# Altium footprint library 2917.PcbLib: 1 footprints
Each footprint in its own frame and in the unit in brackets; x right, y up, seen from the top. Pads: shape width x height; smd on the part's side, far side on the other; paste and mask are expansions set on the pad; w line width, h text height; cw(c..) or ccw(c..) is an arc to the next point about the centre after c.
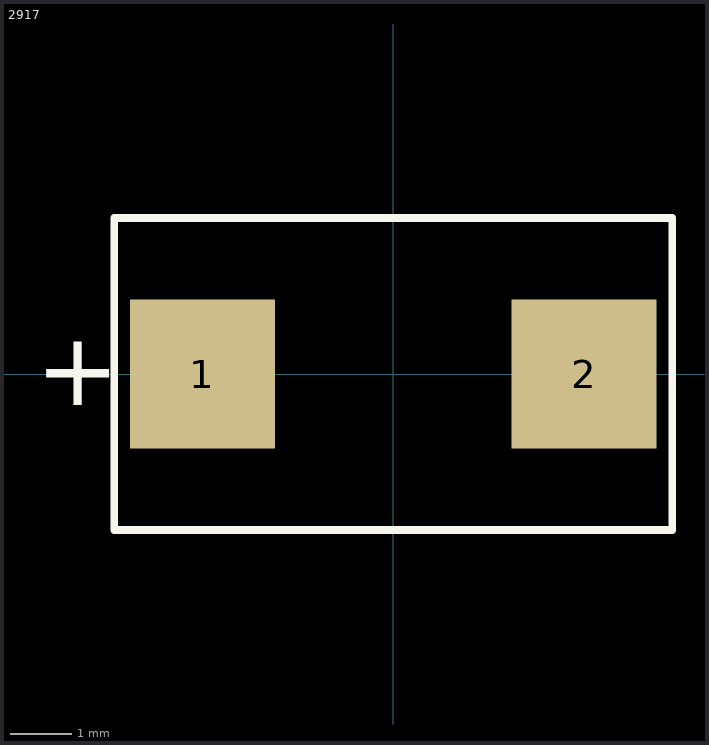
[diagram p0: the footprint, top view; thin cyan lines are the x and y axes]

## 2917 [mm] "Capacitor, SM Tantalum; Body 7.30mm x 4.30mm"
height 1.8
pads (2):
  rect 2.37x2.43 smd: 1(-3.12,0) 2(3.12,0)
Top Overlay:
  lines w0.127: -4.56,-2.55 4.56,-2.55 4.56,2.55 -4.56,2.55 -4.56,-2.55
  text "+" at -5.842,-0.514 h1.2
3D body "T495D477K006ATE125.step": height 3.11, standoff 0, extent -3.787,-2.286 3.813,2.314